# Altium footprint library PCB_Lib.PcbLib: 40 footprints (part 2 of 3)
Each footprint in its own frame and in the unit in brackets; x right, y up, seen from the top. Pads: shape width x height; smd on the part's side, far side on the other; paste and mask are expansions set on the pad; w line width, h text height; cw(c..) or ccw(c..) is an arc to the next point about the centre after c.
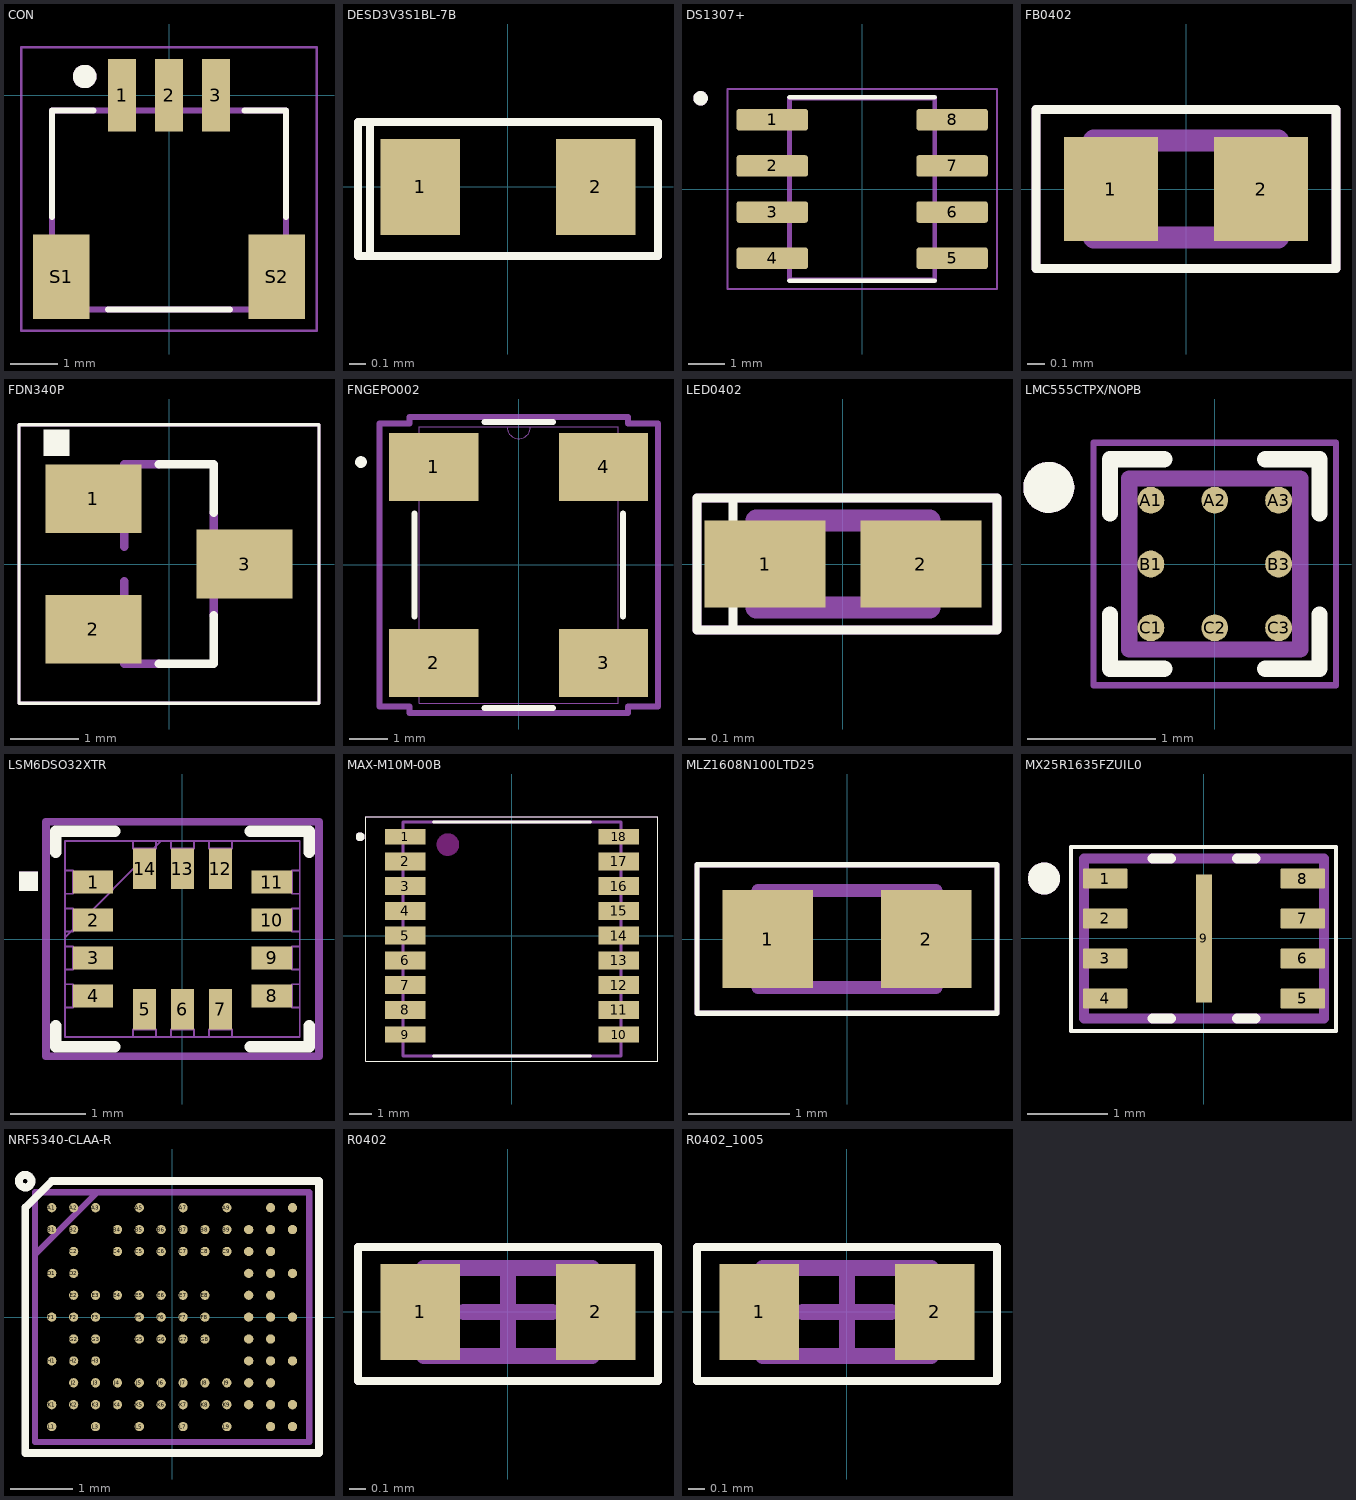
[diagram p1: the footprints below, top view; thin cyan lines are the x and y axes]

## CON [mm]
pads (5):
  rect 0.6x1.55 smd: 1(-1,0) 2(0,0) 3(1,0)
  rect 1.2x1.8 smd: S1(-2.3,-3.875) S2(2.3,-3.875)
Top Overlay:
  circle w0.3: c-1.8,0.4 r0.1
  lines w0.127: -2.5,-2.6 -2.5,-0.325 -1.615,-0.325 ; -1.3,-4.575 1.3,-4.575 ; 1.615,-0.325 2.5,-0.325 2.5,-2.6
Mechanical 13:
  circle w0.3: c-1.8,0.4 r0.1
  lines w0.127: -2.5,-4.575 -2.5,-0.325 2.5,-0.325 2.5,-4.575 -2.5,-4.575
Mechanical 15:
  lines w0.05: -3.15,-5.025 -3.15,1.025 3.15,1.025 3.15,-5.025 -3.15,-5.025
3D body "SM03B-SRSS-TB(LF)(SN)--3DModel-STEP-56544.STEP": height 2.98, standoff 0.02, extent -2.5,-4.657 2.5,0.292

## DESD3V3S1BL-7B [mm] "7V Clamp 5A (8/20µs) Ipp Tvs Diode Surface Mount X1-DFN1006-2"
pads (2):
  rect 0.5x0.6 smd: 1(-0.55,0) 2(0.55,0)
Top Overlay:
  lines w0.05: -0.864,-0.432 -0.864,0.406 ; -0.94,-0.432 0.94,-0.432 0.94,0.406 -0.94,0.406 -0.94,-0.432
Mechanical 15:
  lines w0.05: -0.94,-0.432 0.94,-0.432 0.94,0.406 -0.94,0.406 -0.94,-0.432
3D body "X1-DFN1006-2_RH_DIO.step": height 0.54, standoff 0, extent -0.533,-0.337 0.533,0.337

## DS1307+ [mm]
pads (8):
  rrect25% 1.97x0.59 smd: 1(-2.475,1.905) 2(-2.475,0.635) 3(-2.475,-0.635) 4(-2.475,-1.905) 5(2.475,-1.905) 6(2.475,-0.635) 7(2.475,0.635) 8(2.475,1.905)
Top Overlay:
  circle w0.2: c-4.445,2.495 r0.1
  lines w0.127: -2,-2.52 2,-2.52 ; -2,2.52 2,2.52
Mechanical 13:
  circle w0.2: c-4.445,2.495 r0.1
  lines w0.127: -2,-2.5 2,-2.5 2,2.5 -2,2.5 -2,-2.5
Mechanical 15:
  lines w0.05: -3.71,-2.75 3.71,-2.75 3.71,2.75 -3.71,2.75 -3.71,-2.75
3D body "DS1307Z+.STEP": height 1.75, standoff 0, extent -3,-2.45 3,2.45

## FB0402 [mm] "30 Ohms @ 100 MHz 1 Power Line Ferrite Bead 0402 (1005 Metric) 2.2A 35mOhm"
pads (2):
  rect 0.54x0.6 smd: 1(-0.432,0) 2(0.432,0)
Top Overlay:
  lines w0.05: -0.864,-0.457 0.864,-0.457 0.864,0.457 -0.864,0.457 -0.864,-0.457
Mechanical 13:
  lines w0.127: -0.53,-0.28 0.53,-0.28 0.53,0.28 -0.53,0.28 -0.53,-0.28
Mechanical 15:
  lines w0.05: -0.864,-0.457 -0.864,0.457 0.864,0.457 0.864,-0.457 -0.864,-0.457
3D body "BLM15PD300SN1D.STEP": height 0.55, standoff 0, extent -0.5,-0.25 0.5,0.25

## FDN340P [mm] "P-Channel 20 V 2A (Ta) 500mW (Ta) Surface Mount SOT-23-3"
pads (3):
  rect 1.4x1 smd: 1(-1.1,0.95) 2(-1.1,-0.95) 3(1.1,0)
Top Overlay:
  rectangle: -1.829,1.575 -1.448,1.956
  lines w0.051: -2.183,-2.023 2.183,-2.023 2.183,2.023 -2.183,2.023 -2.183,-2.023
  lines w0.127: -0.15,-1.45 0.65,-1.45 0.65,-0.75 ; -0.15,1.45 0.65,1.45 0.65,0.75
Mechanical 13:
  region: -0.712,0.711 -1.296,0.711 -1.296,1.169 -0.712,1.169
  region: -0.711,-1.17 -1.297,-1.17 -1.297,-0.711 -0.711,-0.711
  region: 1.296,-0.228 0.711,-0.228 0.711,0.228 1.296,0.228
  lines w0.127: -0.65,-0.25 -0.65,-1.45 -0.15,-1.45 ; -0.65,0.25 -0.65,1.45 -0.15,1.45 ; 0.65,-0.75 0.65,0.75
Mechanical 15:
  lines w0.051: -2.183,-2.023 2.183,-2.023 2.183,2.023 -2.183,2.023 -2.183,-2.023
3D body "FDN340P.STEP": height 1.12, standoff 0, extent -1.23,-1.485 1.28,1.435

## FNGEPO002 [mil]
pads (4):
  rect 91x69 smd paste+0 mask+0: 1(-86.61,100) 2(-86.61,-100) 3(86.61,-100) 4(86.61,100)
Top Overlay:
  circle w6: c-161,105 r3
  lines w6: -106.5,-52.4 -106.5,52.4 ; -34.84,-146 34.84,-146 ; -34.84,146 34.84,146 ; 106.5,-52.4 106.5,52.4
Mechanical 13:
  lines w0: -12,141 ccw(c0,141) 12,141
  lines w1: -101.5,-141 -101.5,141 101.5,141 101.5,-141 -101.5,-141
Mechanical 15:
  lines w6: -142.11,-144.5 -111.5,-144.5 -111.5,-151 111.5,-151 111.5,-144.5 142.11,-144.5 142.11,144.5 111.5,144.5 111.5,151 -111.5,151 -111.5,144.5 -142.11,144.5 -142.11,-144.5
3D body "FNGEPO002_DIO.step": height 61.1, standoff 0, extent -120.12,-140.98 120.12,140.98

## LED0402 [mm]
pads (2):
  rect 0.7x0.5 smd mask+0.05: 1(-0.45,0) 2(0.45,0)
Top Overlay:
  lines w0.05: -0.843,-0.381 -0.843,0.381 0.889,0.381 0.889,-0.381 -0.843,-0.381
  lines w0.051: -0.635,-0.381 -0.635,0.381
Mechanical 13:
  lines w0.127: -0.5,-0.25 -0.5,0.25 0.5,0.25 0.5,-0.25 -0.5,-0.25
Mechanical 15:
  lines w0.05: -0.843,-0.381 0.889,-0.381 0.889,0.381 -0.843,0.381 -0.843,-0.381
3D body "0402 Green.step": height 0.35, standoff 0, extent -0.5,-0.25 0.5,0.25

## LMC555CTPX/NOPB [mm] "555 Type, Timer/Oscillator (Single) IC 3MHz 8-uSMD (1.41x1.44)"
pads (8):
  round 0.21 smd: A1(-0.5,0.5) A2(0,0.5) A3(0.5,0.5) B1(-0.5,0) B3(0.5,0) C1(-0.5,-0.5) C2(0,-0.5) C3(0.5,-0.5)
Top Overlay:
  circle w0.2: c-1.3,0.6 r0.1
  lines w0.127: -0.82,-0.395 -0.82,-0.82 -0.395,-0.82 ; -0.82,0.395 -0.82,0.82 -0.395,0.82 ; 0.395,-0.82 0.82,-0.82 0.82,-0.395 ; 0.395,0.82 0.82,0.82 0.82,0.395
Mechanical 13:
  circle w0.2: c-1.3,0.6 r0.1
  lines w0.127: -0.67,-0.67 0.67,-0.67 0.67,0.67 -0.67,0.67 -0.67,-0.67
Mechanical 15:
  lines w0.05: -0.95,-0.95 0.95,-0.95 0.95,0.95 -0.95,0.95 -0.95,-0.95
3D body "LMC555CTPX_NOPB.STEP": height 0.58, standoff 0, extent -0.704,-0.717 0.704,0.717

## LSM6DSO32XTR [mil] "Accelerometer, Gyroscope, Temperature Sensor I2C, SPI Output"
pads (14):
  rect 21x12 smd paste+0 mask+0: 1(-46.5,29.54) 2(-46.5,9.85) 3(-46.5,-9.85) 4(-46.5,-29.54) 8(46.5,-29.54) 9(46.5,-9.85) 10(46.5,9.85) 11(46.5,29.54)
  rect 12x21 smd paste+0 mask+0: 5(-19.69,-36.5) 6(0,-36.5) 7(19.69,-36.5) 12(19.69,36.5) 13(0,36.5) 14(-19.69,36.5)
Top Overlay:
  rectangle: -85,25 -75,35
  lines w6: -66,-45.05 -66,-56 -35.21,-56 ; -66,45.05 -66,56 -35.21,56 ; 35.21,-56 66,-56 66,-45.05 ; 35.21,56 66,56 66,45.05
Mechanical 13:
  rectangle: -85,25 -75,35
  lines w1: -61,1 -11,51 ; -61,-51 61,-51 61,51 -61,51 -61,-51 ; -61,-35.53 -61,-23.54 -57,-23.54 -57,-35.53 -61,-35.53 ; -61,-15.85 -61,-3.85 -57,-3.85 -57,-15.85 -61,-15.85 ; -61,3.85 -61,15.85 -57,15.85 -57,3.85 -61,3.85 ; -61,23.54 -61,35.53 -57,35.53 -57,23.54 -61,23.54 ; -25.69,-51 -13.69,-51 -13.69,-47 -25.69,-47 -25.69,-51 ; -25.69,47 -13.69,47 -13.69,51 -25.69,51 -25.69,47 ; -6,-51 6,-51 6,-47 -6,-47 -6,-51 ; -6,47 6,47 6,51 -6,51 -6,47 ; 13.69,-51 25.69,-51 25.69,-47 13.69,-47 13.69,-51 ; 13.69,47 25.69,47 25.69,51 13.69,51 13.69,47 ; 57,-35.53 61,-35.53 61,-23.54 57,-23.54 57,-35.53 ; 57,-15.85 61,-15.85 61,-3.85 57,-3.85 57,-15.85 ; 57,3.85 61,3.85 61,15.85 57,15.85 57,3.85 ; 57,23.54 61,23.54 61,35.53 57,35.53 57,23.54
Mechanical 15:
  lines w4: -71,-61 -71,-45.53 -71,45.53 -71,61 -35.69,61 35.69,61 71,61 71,45.53 71,-45.53 71,-61 35.69,-61 -35.69,-61 -71,-61
3D body "LGA_O32XTR_STM.step": height 34.09, standoff 0, extent -60.98,-50.98 60.98,50.98

## MAX-M10M-00B [mm] "MAX-M10 RF Receiver BeiDou, Galileo, GLONASS, GNSS, GPS -164dBm Not Included"
pads (18):
  rect 1.8x0.7 smd paste-2: 1(-4.75,4.4) 9(-4.75,-4.4) 10(4.75,-4.4) 18(4.75,4.4)
  rect 1.8x0.8 smd paste-2: 2(-4.75,3.3) 3(-4.75,2.2) 4(-4.75,1.1) 5(-4.75,0) 6(-4.75,-1.1) 7(-4.75,-2.2) 8(-4.75,-3.3) 11(4.75,-3.3) 12(4.75,-2.2) 13(4.75,-1.1) 14(4.75,0) 15(4.75,1.1) 16(4.75,2.2) 17(4.75,3.3)
Top Overlay:
  circle w0.2: c-6.75,4.4 r0.1
  lines w0.05: -6.5,-5.6 6.5,-5.6 6.5,5.3 -6.5,5.3 -6.5,-5.6
  lines w0.127: -3.49,-5.35 3.49,-5.35 ; -3.49,5.05 3.49,5.05
Top Paste:
  region: -4.85,0.3 -3.95,0.3 -3.95,-0.3 -4.85,-0.3 -4.85,-0.4 -6.25,-0.4 -6.25,0.4 -4.85,0.4
  region: -4.85,4.65 -3.95,4.65 -3.95,4.15 -4.85,4.15 -4.85,4.05 -6.25,4.05 -6.25,4.75 -4.85,4.75
  region: 6.25,4.05 4.85,4.05 4.85,4.15 3.95,4.15 3.95,4.65 4.85,4.65 4.85,4.75 6.25,4.75
  region: -4.85,3.6 -3.95,3.6 -3.95,3 -4.85,3 -4.85,2.9 -6.25,2.9 -6.25,3.7 -4.85,3.7
  region: -4.85,2.5 -3.95,2.5 -3.95,1.9 -4.85,1.9 -4.85,1.8 -6.25,1.8 -6.25,2.6 -4.85,2.6
  region: -4.85,1.4 -3.95,1.4 -3.95,0.8 -4.85,0.8 -4.85,0.7 -6.25,0.7 -6.25,1.5 -4.85,1.5
  region: -4.85,-0.8 -3.95,-0.8 -3.95,-1.4 -4.85,-1.4 -4.85,-1.5 -6.25,-1.5 -6.25,-0.7 -4.85,-0.7
  region: -4.85,-1.9 -3.95,-1.9 -3.95,-2.5 -4.85,-2.5 -4.85,-2.6 -6.25,-2.6 -6.25,-1.8 -4.85,-1.8
  region: -4.85,-3 -3.95,-3 -3.95,-3.6 -4.85,-3.6 -4.85,-3.7 -6.25,-3.7 -6.25,-2.9 -4.85,-2.9
  region: 6.25,-0.4 4.85,-0.4 4.85,-0.3 3.95,-0.3 3.95,0.3 4.85,0.3 4.85,0.4 6.25,0.4
  region: 6.25,2.9 4.85,2.9 4.85,3 3.95,3 3.95,3.6 4.85,3.6 4.85,3.7 6.25,3.7
  region: 6.25,1.8 4.85,1.8 4.85,1.9 3.95,1.9 3.95,2.5 4.85,2.5 4.85,2.6 6.25,2.6
  region: 6.25,0.7 4.85,0.7 4.85,0.8 3.95,0.8 3.95,1.4 4.85,1.4 4.85,1.5 6.25,1.5
  region: 6.25,-1.5 4.85,-1.5 4.85,-1.4 3.95,-1.4 3.95,-0.8 4.85,-0.8 4.85,-0.7 6.25,-0.7
  region: 6.25,-2.6 4.85,-2.6 4.85,-2.5 3.95,-2.5 3.95,-1.9 4.85,-1.9 4.85,-1.8 6.25,-1.8
  region: 6.25,-3.7 4.85,-3.7 4.85,-3.6 3.95,-3.6 3.95,-3 4.85,-3 4.85,-2.9 6.25,-2.9
  region: -4.85,-4.15 -3.95,-4.15 -3.95,-4.65 -4.85,-4.65 -4.85,-4.75 -6.25,-4.75 -6.25,-4.05 -4.85,-4.05
  region: 6.25,-4.75 4.85,-4.75 4.85,-4.65 3.95,-4.65 3.95,-4.15 4.85,-4.15 4.85,-4.05 6.25,-4.05
Keep-Out Layer:
  circle w0.5: c-2.85,4.05 r0.25
Mechanical 13:
  circle w0.2: c-6.75,4.4 r0.1
  lines w0.127: -4.85,-5.35 4.85,-5.35 4.85,5.05 -4.85,5.05 -4.85,-5.35
Mechanical 15:
  lines w0.05: -6.5,-5.6 6.5,-5.6 6.5,5.3 -6.5,5.3 -6.5,-5.6
3D body "MAX-M10M-00B--3DModel-STEP-510211.STEP": height 2.7, standoff 0, extent -4.85,-5.35 4.85,5.05

## MLZ1608N100LTD25 [mm] "10 µH Shielded Multilayer Inductor 300 mA 600mOhm 0603 (1608 Metric)"
pads (2):
  rect 0.9x0.97 smd: 1(-0.785,0) 2(0.785,0)
Top Overlay:
  lines w0.05: -1.485,-0.735 1.485,-0.735 1.485,0.735 -1.485,0.735 -1.485,-0.735
Mechanical 13:
  lines w0.127: -0.88,-0.48 -0.88,0.48 0.88,0.48 0.88,-0.48 -0.88,-0.48
Mechanical 15:
  lines w0.05: -1.485,-0.735 -1.485,0.735 1.485,0.735 1.485,-0.735 -1.485,-0.735
3D body "MLZ1608N100LTD25.STEP": height 0.95, standoff 0, extent -0.8,-0.4 0.8,0.4

## MX25R1635FZUIL0 [mm] "FLASH - NOR Memory IC 16Mbit SPI - Quad I/O 33 MHz 8-USON (2x3)"
pads (9):
  rrect14% 0.56x0.25 smd mask+0: 1(-1.235,0.75) 2(-1.235,0.25) 3(-1.235,-0.25) 4(-1.235,-0.75) 5(1.235,-0.75) 6(1.235,-0.25) 7(1.235,0.25) 8(1.235,0.75)
  rect 0.2x1.6 smd paste-2 mask+0.05: 9(0,0)
Top Overlay:
  circle w0.2: c-2,0.75 r0.1
  lines w0.05: -1.664,-1.156 1.651,-1.156 1.651,1.143 -1.664,1.143 -1.664,-1.156
  lines w0.127: -0.641,-1 -0.413,-1 ; -0.641,1 -0.413,1 ; 0.413,-1 0.641,-1 ; 0.413,1 0.641,1
Top Paste:
  region: 0.063,-0.506 -0.063,-0.506 -0.063,0.506 0.063,0.506
Top Solder:
  drawing of 8 lines, arcs and shapes, not listed
Mechanical 13:
  circle w0.2: c-2,0.75 r0.1
  lines w0.127: -1.5,-1 1.5,-1 1.5,1 -1.5,1 -1.5,-1
Mechanical 15:
  lines w0.05: -1.664,-1.156 1.651,-1.156 1.651,1.143 -1.664,1.143 -1.664,-1.156
3D body "step_temp.STEP": height 0.6, standoff 0, extent -1.5,-1 1.5,1

## NRF5340-CLAA-R [mm]
pads (95):
  round 0.148 smd: A1(-1.925,1.75) A2(-1.575,1.75) A3(-1.225,1.75) A5(-0.525,1.75) A7(0.175,1.75) A9(0.875,1.75) A11(1.575,1.75) A12(1.925,1.75) B1(-1.925,1.4) B2(-1.575,1.4) B4(-0.875,1.4) B5(-0.525,1.4) B6(-0.175,1.4) B7(0.175,1.4) B8(0.525,1.4) B9(0.875,1.4) B10(1.225,1.4) B11(1.575,1.4) B12(1.925,1.4) C2(-1.575,1.05) C4(-0.875,1.05) C5(-0.525,1.05) C6(-0.175,1.05) C7(0.175,1.05) C8(0.525,1.05) C9(0.875,1.05) C10(1.225,1.05) C11(1.575,1.05) D1(-1.925,0.7) D2(-1.575,0.7) D10(1.225,0.7) D11(1.575,0.7) D12(1.925,0.7) E2(-1.575,0.35) E3(-1.225,0.35) E4(-0.875,0.35) E5(-0.525,0.35) E6(-0.175,0.35) E7(0.175,0.35) E8(0.525,0.35) E10(1.225,0.35) E11(1.575,0.35) F1(-1.925,0) F2(-1.575,0) F3(-1.225,0) F5(-0.525,0) F6(-0.175,0) F7(0.175,0) F8(0.525,0) F10(1.225,0) F11(1.575,0) F12(1.925,0) G2(-1.575,-0.35) G3(-1.225,-0.35) G5(-0.525,-0.35) G6(-0.175,-0.35) G7(0.175,-0.35) G8(0.525,-0.35) G10(1.225,-0.35) G11(1.575,-0.35) H1(-1.925,-0.7) H2(-1.575,-0.7) H3(-1.225,-0.7) H10(1.225,-0.7) H11(1.575,-0.7) H12(1.925,-0.7) J2(-1.575,-1.05) J3(-1.225,-1.05) J4(-0.875,-1.05) J5(-0.525,-1.05) J6(-0.175,-1.05) J7(0.175,-1.05) J8(0.525,-1.05) J9(0.875,-1.05) J10(1.225,-1.05) J11(1.575,-1.05) K1(-1.925,-1.4) K2(-1.575,-1.4) K3(-1.225,-1.4) K4(-0.875,-1.4) K5(-0.525,-1.4) K6(-0.175,-1.4) K7(0.175,-1.4) K8(0.525,-1.4) K9(0.875,-1.4) K10(1.225,-1.4) K11(1.575,-1.4) K12(1.925,-1.4) L1(-1.925,-1.75) L3(-1.225,-1.75) L5(-0.525,-1.75) L7(0.175,-1.75) L9(0.875,-1.75) L11(1.575,-1.75) L12(1.925,-1.75)
Top Overlay:
  circle w0.127: c-2.349,2.174 r0.1
  lines w0.127: -2.349,-2.174 2.349,-2.174 2.349,2.174 -1.925,2.174 -2.349,1.75 -2.349,-2.174
Mechanical 15:
  lines w0.1: -2.195,0.998 -1.197,1.996 ; -2.195,-1.997 2.195,-1.997 2.195,1.997 -2.195,1.997 -2.195,-1.997
3D body "NRF5340-CLAA-R.stp": height 0.45, standoff 0, extent -2.195,-1.997 2.195,1.997

## PCBComponent_1 [mm]

## R0402 [mm] "0 Ohms Jumper Chip Resistor 0402 (1005 Metric) Moisture Resistant Thick Film"
pads (2):
  rect 0.5x0.6 smd: 1(-0.55,0) 2(0.55,0)
Top Overlay:
  lines w0.05: -0.94,-0.432 0.94,-0.432 0.94,0.406 -0.94,0.406 -0.94,-0.432
Mechanical 13:
  lines w0.1: -0.525,-0.275 0.525,-0.275 0.525,0.275 -0.525,0.275 -0.525,-0.275
Mechanical 15:
  lines w0.05: -0.94,-0.432 0.94,-0.432 0.94,0.406 -0.94,0.406 -0.94,-0.432
  lines w0.1: -0.275,0 0.275,0 ; 0,-0.275 0,0.275
3D body "RK73H1ETTP3160F.STEP": height 0.4, standoff 0, extent -0.5,-0.25 0.5,0.25

## R0402_1005 [mm]
pads (2):
  rect 0.5x0.6 smd: 1(-0.55,0) 2(0.55,0)
Top Overlay:
  lines w0.05: -0.94,-0.432 0.94,-0.432 0.94,0.407 -0.94,0.407 -0.94,-0.432
Mechanical 13:
  lines w0.1: -0.525,-0.275 -0.525,0.275 0.525,0.275 0.525,-0.275 -0.525,-0.275
Mechanical 15:
  lines w0.05: -0.94,-0.432 0.94,-0.432 0.94,0.407 -0.94,0.407 -0.94,-0.432
  lines w0.1: -0.275,0 0.275,0 ; 0,-0.275 0,0.275
3D body "TNPW040222K1BEED.STEP": height 0.4, standoff 0, extent -0.5,-0.25 0.5,0.25